# Altium schematic symbol library Connector - Card Edge.SchLib: 1 symbol
Pins are listed as number, name and electrical type; pins without a type are passive.

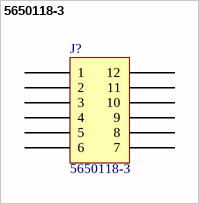
[diagram p0: symbol 5650118-3]

## 5650118-3
designator J?
CONN CARDEDGE 6POS DL .100 R/A; Manufacturer: TE Connectivity AMP Connectors; Card Type: Non Specified - Dual Edge; Gender: Female; Number of Positions: 12; Card Thickness: 0.054" ~ 0.070" (1.37mm ~ 1.78mm); Pitch: 0.100" (2.54mm); Part Number: 5650118-3; PartId: 10976; Supplier 1: Digi-Key; Supplier Part Number 1: A115473-ND; ComponentLink1Description: Datasheet; ComponentLink1URL: http://www.te.com/commerce/DocumentDelivery/DDEController?Action=srchrtrv&DocNm=5650118&DocType=Customer+Drawing&DocLang=English; ComponentLink2Description: Digi-Key Listing; ComponentLink2URL: http://www.digikey.ca/product-detail/en/te-connectivity-amp-connectors/5650118-3/A115473-ND/2188158; Operating Temperature: -55C ~ 85C; Price: 2.5; Type: Card Edge Connectors - Edgeboard Connectors; Series: Standard Edge II; Number of Positions/Bay/Row: -; Number Of Rows: 2; Features: -; Mounting Type: Through Hole, Right Angle; Termination: Solder; Contact Finish: Gold; Flange Feature: -; Colour: Black
footprint TE 5650118-3
pins: 1, 2, 3, 4, 5, 6, 7, 8, 9, 10, 11, 12